# EAGLE library part LC (library pedelec)
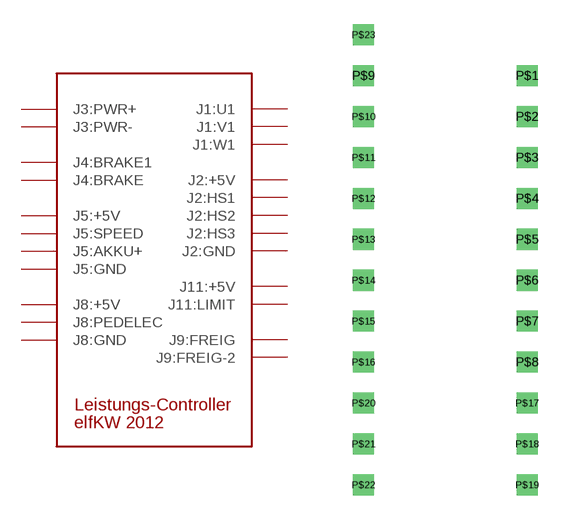
[diagram p0: symbol with the pads of LC_DUMMY; footprint LC_DUMMY]

Designator prefix -

## LC  [LC_DUMMY]
P$1  J1:U1  out
P$2  J1:V1  out
P$3  J1:W1  out
P$4  J2:+5V  pwr
P$5  J2:GND  pwr
P$6  J2:HS1  in
P$7  J2:HS2  in
P$8  J2:HS3  in
P$9  J3:PWR+  in
P$10  J3:PWR-  in
P$11  J4:BRAKE1  pwr
P$12  J4:BRAKE  in
P$13  J5:+5V  pwr
P$14  J5:GND  pwr
P$15  J5:SPEED  in
P$16  J8:+5V  pwr
P$17  J8:GND  pwr
P$18  J8:PEDELEC  in
P$19  J11:+5V  pwr
P$20  J11:LIMIT  in
P$21  J5:AKKU+  out
P$22  J9:FREIG  in
P$23  J9:FREIG-2  out

## Footprint LC_DUMMY (pad centres in mm)
drill 0.8 square: P$1 5.08,8.89; P$2 5.08,6.35; P$3 5.08,3.81; P$4 5.08,1.27; P$5 5.08,-1.27; P$6 5.08,-3.81; P$7 5.08,-6.35; P$8 5.08,-8.89; P$9 -5.08,8.89; P$10 -5.08,6.35; P$11 -5.08,3.81; P$12 -5.08,1.27; P$13 -5.08,-1.27; P$14 -5.08,-3.81; P$15 -5.08,-6.35; P$16 -5.08,-8.89; P$17 5.08,-11.43; P$18 5.08,-13.97; P$19 5.08,-16.51; P$20 -5.08,-11.43; P$21 -5.08,-13.97; P$22 -5.08,-16.51; P$23 -5.08,11.43